# Altium integrated library TI Power Management Power Modules.IntLib: 831 symbols (part 7 of 44)
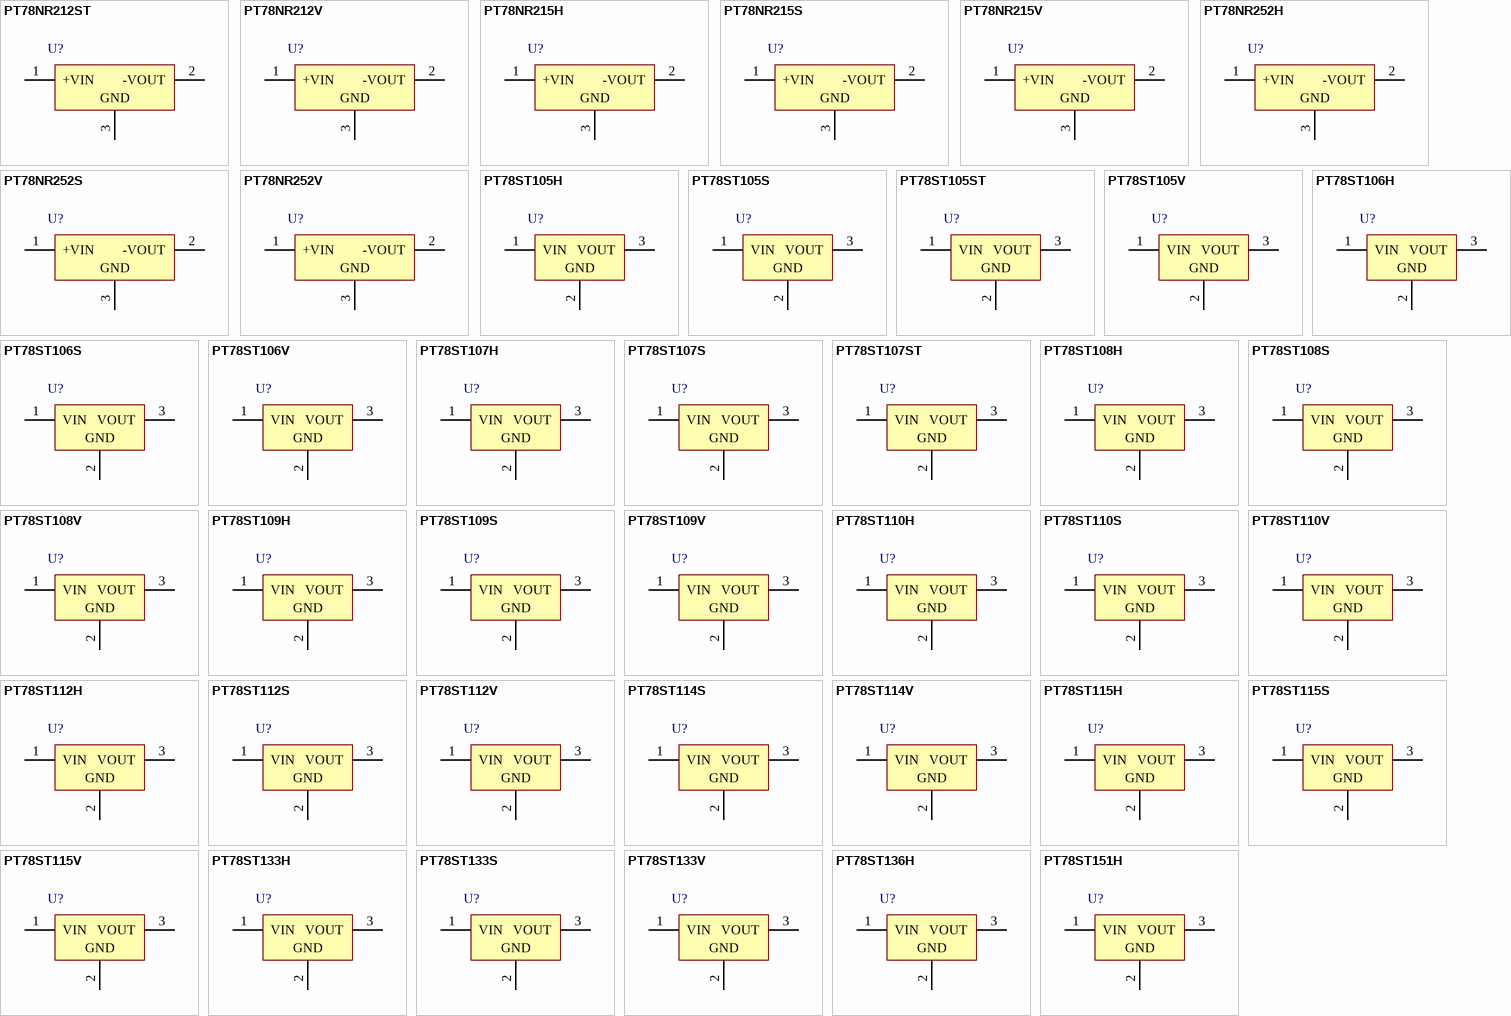
[diagram p29: symbols PT78NR212ST to PT78ST151H]

## PT78NR252S
designator U?
-5.2 V, 10 to 12 W Plus to Minus Voltage ISR, 0 to 85 degC, 3-pin Module (EFJ3), Pb-Free (RoHS); Manufacturer: Texas Instruments; PartNumber: PT78NR252S; Iout(Max)(A): 2; Regulated Outputs(#): 1; SubFamily: Non-Isolated POL; Vin(Max)(V): 15; Vin(Min)(V): 9; DatasheetVersion: SLTS074A; PackageVersion: 4203868/B; PackageReference: EFJ3; PackageDescription: 3-Pin Metal In-Line, Body 23.62 x 25.65 mm; Supplier 1: Digi-Key; Supplier Part Number 1: 296-20275-ND; Supplier 2: Newark; Supplier Part Number 2: 75C7215; Supplier 3: Mouser; Supplier Part Number 3: 595-PT78NR252S; Eco-Plan: Pb-Free (RoHS); Vout(Max)(V): -5.2; Vout(Min)(V): -5.2; Mounting Technology: Surface Mount; ComponentLink1Description: Manufacturer URL; ComponentLink1URL: http://www.ti.com/; ComponentLink2Description: Datasheet; ComponentLink2URL: http://www.ti.com/general/docs/lit/getliterature.tsp?genericPartNumber=PT78NR252&fileType=pdf; ComponentLink3Description: Package Specification; ComponentLink3URL: http://www.ti.com/litv/pdf/mmsi064a; ComponentLink4Description: URL Link1; ComponentLink4URL: Samples URL:http://www.ti.com/product/pt78nr252#samples
footprint TI-EFJ3_V (Module, 3-Leads, Body 25.65x23.62mm)
pins: 1 +VIN (power), 2 -VOUT (power), 3 GND (power)

## PT78NR252V
designator U?
-5.2 V, 10 to 12 W Plus to Minus Voltage ISR, 0 to 85 degC, 3-pin Module (EFF3), Pb-Free (RoHS); Manufacturer: Texas Instruments; PartNumber: PT78NR252V; Iout(Max)(A): 2; Regulated Outputs(#): 1; SubFamily: Non-Isolated POL; Vin(Max)(V): 15; Vin(Min)(V): 9; DatasheetVersion: SLTS074A; PackageVersion: 4203866/B; PackageReference: EFF3; PackageDescription: 3-Pin Metal In-Line, Body 24.89 x 25.65 mm; Supplier 1: Digi-Key; Supplier Part Number 1: 296-20276-ND; Supplier 2: Mouser; Supplier Part Number 2: 595-PT78NR252V; Eco-Plan: Pb-Free (RoHS); Vout(Max)(V): -5.2; Vout(Min)(V): -5.2; Mounting Technology: Through Hole; ComponentLink1Description: Manufacturer URL; ComponentLink1URL: http://www.ti.com/; ComponentLink2Description: Datasheet; ComponentLink2URL: http://www.ti.com/general/docs/lit/getliterature.tsp?genericPartNumber=PT78NR252&fileType=pdf; ComponentLink3Description: Package Specification; ComponentLink3URL: http://www.ti.com/lit/ml/mmsi062a/mmsi062a.pdf; ComponentLink4Description: URL Link1; ComponentLink4URL: Samples URL:http://www.ti.com/product/pt78nr252#samples
footprint TI-EFF3_V (Module, 3-Leads, Body 25.65x9.65mm)
pins: 1 +VIN (power), 2 -VOUT (power), 3 GND (power)

## PT78ST105H
designator U?
5 V Vout 1.5 Amp Wide-Input Positive Step-Down ISR, -40 to 85 degC, 3-pin Module (EFA3), Pb-Free (RoHS); Manufacturer: Texas Instruments; PartNumber: PT78ST105H; Iout(Max)(A): 1.5; Regulated Outputs(#): 1; SubFamily: Non-Isolated POL; Vin(Max)(V): 38; Vin(Min)(V): 9; Vout(Max)(V): 5; DatasheetVersion: SLTS059A; PackageVersion: 4203861/C; PackageReference: EFA3; PackageDescription: 3-Pin Plastic In-Line, Body 23.87 x 22.86 mm; Supplier 1: Digi-Key; Supplier Part Number 1: PT78ST105H-ND; Supplier 2: Farnell; Supplier Part Number 2: 1213146; Supplier 3: Newark; Supplier Part Number 3: 16M1403; Supplier 4: Mouser; Supplier Part Number 4: 595-PT78ST105H; Eco-Plan: Pb-Free (RoHS); Vout(Min)(V): 5; Mounting Technology: Through Hole; ComponentLink1Description: Manufacturer URL; ComponentLink1URL: http://www.ti.com/; ComponentLink2Description: Datasheet; ComponentLink2URL: http://www.ti.com/general/docs/lit/getliterature.tsp?genericPartNumber=PT78ST105&fileType=pdf; ComponentLink3Description: Package Specification; ComponentLink3URL: http://www.ti.com/lit/ml/mpsi049b/mpsi049b.pdf; ComponentLink4Description: URL Link1; ComponentLink4URL: Samples URL:http://www.ti.com/product/pt78st105#samples
footprint TI-EFA3_V (Module, 3-Leads, Body 23.87x22.86 mm)
pins: 1 VIN (power), 2 GND (power), 3 VOUT (power)

## PT78ST105S
designator U?
5 V Vout 1.5 Amp Wide-Input Positive Step-Down ISR, -40 to 85 degC, 3-pin Module (EFC3), Pb-Free (RoHS); Manufacturer: Texas Instruments; PartNumber: PT78ST105S; Iout(Max)(A): 1.5; Regulated Outputs(#): 1; SubFamily: Non-Isolated POL; Vin(Max)(V): 38; Vin(Min)(V): 9; Vout(Max)(V): 5; DatasheetVersion: SLTS059A; PackageVersion: 4203862/C; PackageReference: EFC3; PackageDescription: 3-Pin Plastic In-Line, Body 23.87 x 22.86 mm; Supplier 1: Digi-Key; Supplier Part Number 1: PT78ST105S-ND; Supplier 2: Farnell; Supplier Part Number 2: 1213147; Supplier 3: Newark; Supplier Part Number 3: 17M7534; Supplier 4: Newark; Supplier Part Number 4: 01M8541; Supplier 5: Mouser; Supplier Part Number 5: 595-PT78ST105S; Eco-Plan: Pb-Free (RoHS); Vout(Min)(V): 5; Mounting Technology: Surface Mount; ComponentLink1Description: Manufacturer URL; ComponentLink1URL: http://www.ti.com/; ComponentLink2Description: Datasheet; ComponentLink2URL: http://www.ti.com/general/docs/lit/getliterature.tsp?genericPartNumber=PT78ST105&fileType=pdf; ComponentLink3Description: Package Specification; ComponentLink3URL: http://www.ti.com/lit/ml/mpsi050b/mpsi050b.pdf; ComponentLink4Description: URL Link1; ComponentLink4URL: Samples URL:http://www.ti.com/product/pt78st105#samples
footprint TI-EFC3_V (3-Leads Plastic In-Line, Body 22.86x23.87mm)
pins: 1 VIN (power), 2 GND (power), 3 VOUT (power)

## PT78ST105ST
designator U?
5 V Vout 1.5 Amp Wide-Input Positive Step-Down ISR, -40 to 85 degC, 3-pin Module (EFC3), Pb-Free (RoHS); Manufacturer: Texas Instruments; PartNumber: PT78ST105ST; Iout(Max)(A): 1.5; Regulated Outputs(#): 1; SubFamily: Non-Isolated POL; Vin(Max)(V): 38; Vin(Min)(V): 9; Vout(Max)(V): 5; DatasheetVersion: SLTS059A; PackageVersion: 4203862/C; PackageReference: EFC3; PackageDescription: 3-Pin Plastic In-Line, Body 23.87 x 22.86 mm; Supplier 1: Digi-Key; Supplier Part Number 1: PT78ST105ST-ND; Supplier 2: Newark; Supplier Part Number 2: 75C7218; Supplier 3: Mouser; Supplier Part Number 3: 595-PT78ST105ST; Eco-Plan: Pb-Free (RoHS); Vout(Min)(V): 5; Mounting Technology: Surface Mount; ComponentLink1Description: Manufacturer URL; ComponentLink1URL: http://www.ti.com/; ComponentLink2Description: Datasheet; ComponentLink2URL: http://www.ti.com/general/docs/lit/getliterature.tsp?genericPartNumber=PT78ST105&fileType=pdf; ComponentLink3Description: Package Specification; ComponentLink3URL: http://www.ti.com/lit/ml/mpsi050b/mpsi050b.pdf; ComponentLink4Description: URL Link1; ComponentLink4URL: Samples URL:http://www.ti.com/product/pt78st105#samples
footprint TI-EFC3_V (3-Leads Plastic In-Line, Body 22.86x23.87mm)
pins: 1 VIN (power), 2 GND (power), 3 VOUT (power)

## PT78ST105V
designator U?
5 V Vout 1.5 Amp Wide-Input Positive Step-Down ISR, -40 to 85 degC, 3-pin Module (EFD3), Pb-Free (RoHS); Manufacturer: Texas Instruments; PartNumber: PT78ST105V; Iout(Max)(A): 1.5; Regulated Outputs(#): 1; SubFamily: Non-Isolated POL; Vin(Max)(V): 38; Vin(Min)(V): 9; Vout(Max)(V): 5; DatasheetVersion: SLTS059A; PackageVersion: 4203860/A; PackageReference: EFD3; PackageDescription: 3-Pin Plastic In-Line, Body 23.87 x 22.86 mm; Supplier 1: Digi-Key; Supplier Part Number 1: PT78ST105V-ND; Supplier 2: Farnell; Supplier Part Number 2: 1213148; Supplier 3: Newark; Supplier Part Number 3: 16M2467; Supplier 4: Mouser; Supplier Part Number 4: 595-PT78ST105V; Eco-Plan: Pb-Free (RoHS); Vout(Min)(V): 5; Mounting Technology: Through Hole; ComponentLink1Description: Manufacturer URL; ComponentLink1URL: http://www.ti.com/; ComponentLink2Description: Datasheet; ComponentLink2URL: http://www.ti.com/general/docs/lit/getliterature.tsp?genericPartNumber=PT78ST105&fileType=pdf; ComponentLink3Description: Package Specification; ComponentLink3URL: http://www.ti.com/lit/ml/mpsi048/mpsi048.pdf; ComponentLink4Description: URL Link1; ComponentLink4URL: Samples URL:http://www.ti.com/product/pt78st105#samples
footprint TI-EFD3_V (Module, 3-Leads, Body 22.86x7.87mm)
pins: 1 VIN (power), 2 GND (power), 3 VOUT (power)

## PT78ST106H
designator U?
6 V Vout 1.5 Amp Wide-Input Positive Step-Down ISR, -40 to 85 degC, 3-pin Module (EFA3), Pb-Free (RoHS); Manufacturer: Texas Instruments; PartNumber: PT78ST106H; Iout(Max)(A): 1.5; Regulated Outputs(#): 1; SubFamily: Non-Isolated POL; Vin(Max)(V): 38; Vin(Min)(V): 9; Vout(Max)(V): 6; DatasheetVersion: SLTS059A; PackageVersion: 4203861/C; PackageReference: EFA3; PackageDescription: 3-Pin Plastic In-Line, Body 23.87 x 22.86 mm; Supplier 1: Digi-Key; Supplier Part Number 1: 296-32704-ND; Supplier 2: Newark; Supplier Part Number 2: 17M7535; Supplier 3: Mouser; Supplier Part Number 3: 595-PT78ST106H; Eco-Plan: Pb-Free (RoHS); Vout(Min)(V): 6; Mounting Technology: Through Hole; ComponentLink1Description: Manufacturer URL; ComponentLink1URL: http://www.ti.com/; ComponentLink2Description: Datasheet; ComponentLink2URL: http://www.ti.com/general/docs/lit/getliterature.tsp?genericPartNumber=PT78ST106&fileType=pdf; ComponentLink3Description: Package Specification; ComponentLink3URL: http://www.ti.com/lit/ml/mpsi049b/mpsi049b.pdf; ComponentLink4Description: URL Link1; ComponentLink4URL: Samples URL:http://www.ti.com/product/pt78st106#samples
footprint TI-EFA3_V (Module, 3-Leads, Body 23.87x22.86 mm)
pins: 1 VIN (power), 2 GND (power), 3 VOUT (power)

## PT78ST106S
designator U?
6 V Vout 1.5 Amp Wide-Input Positive Step-Down ISR, -40 to 85 degC, 3-pin Module (EFC3), Pb-Free (RoHS); Manufacturer: Texas Instruments; PartNumber: PT78ST106S; Iout(Max)(A): 1.5; Regulated Outputs(#): 1; SubFamily: Non-Isolated POL; Vin(Max)(V): 38; Vin(Min)(V): 9; Vout(Max)(V): 6; DatasheetVersion: SLTS059A; PackageVersion: 4203862/C; PackageReference: EFC3; PackageDescription: 3-Pin Plastic In-Line, Body 23.87 x 22.86 mm; Supplier 1: Digi-Key; Supplier Part Number 1: 296-20277-ND; Supplier 2: Farnell; Supplier Part Number 2: 1755071; Supplier 3: Newark; Supplier Part Number 3: 34R8217; Supplier 4: Newark; Supplier Part Number 4: 75C7221; Supplier 5: Mouser; Supplier Part Number 5: 595-PT78ST106S; Eco-Plan: Pb-Free (RoHS); Vout(Min)(V): 6; Mounting Technology: Surface Mount; ComponentLink1Description: Manufacturer URL; ComponentLink1URL: http://www.ti.com/; ComponentLink2Description: Datasheet; ComponentLink2URL: http://www.ti.com/general/docs/lit/getliterature.tsp?genericPartNumber=PT78ST106&fileType=pdf; ComponentLink3Description: Package Specification; ComponentLink3URL: http://www.ti.com/lit/ml/mpsi050b/mpsi050b.pdf; ComponentLink4Description: URL Link1; ComponentLink4URL: Samples URL:http://www.ti.com/product/pt78st106#samples
footprint TI-EFC3_V (3-Leads Plastic In-Line, Body 22.86x23.87mm)
pins: 1 VIN (power), 2 GND (power), 3 VOUT (power)

## PT78ST106V
designator U?
6 V Vout 1.5 Amp Wide-Input Positive Step-Down ISR, -40 to 85 degC, 3-pin Module (EFD3), Pb-Free (RoHS); Manufacturer: Texas Instruments; PartNumber: PT78ST106V; Iout(Max)(A): 1.5; Regulated Outputs(#): 1; SubFamily: Non-Isolated POL; Vin(Max)(V): 38; Vin(Min)(V): 11; Vout(Max)(V): 6; DatasheetVersion: SLTS059A; PackageVersion: 4203860/A; PackageReference: EFD3; PackageDescription: 3-Pin Plastic In-Line, Body 23.87 x 22.86 mm; Supplier 1: Digi-Key; Supplier Part Number 1: PT78ST106V-ND; Supplier 2: Newark; Supplier Part Number 2: 75C7223; Supplier 3: Mouser; Supplier Part Number 3: 595-PT78ST106V; Eco-Plan: Pb-Free (RoHS); Vout(Min)(V): 6; Mounting Technology: Through Hole; ComponentLink1Description: Manufacturer URL; ComponentLink1URL: http://www.ti.com/; ComponentLink2Description: Datasheet; ComponentLink2URL: http://www.ti.com/general/docs/lit/getliterature.tsp?genericPartNumber=PT78ST106&fileType=pdf; ComponentLink3Description: Package Specification; ComponentLink3URL: http://www.ti.com/lit/ml/mpsi048/mpsi048.pdf; ComponentLink4Description: URL Link1; ComponentLink4URL: Samples URL:http://www.ti.com/product/pt78st106#samples
footprint TI-EFD3_V (Module, 3-Leads, Body 22.86x7.87mm)
pins: 1 VIN (power), 2 GND (power), 3 VOUT (power)

## PT78ST107H
designator U?
7 V Vout 1.5 Amp Wide-Input Positive Step-Down ISR, -40 to 85 degC, 3-pin Module (EFA3), Pb-Free (RoHS); Manufacturer: Texas Instruments; PartNumber: PT78ST107H; Iout(Max)(A): 1.5; Regulated Outputs(#): 1; SubFamily: Non-Isolated POL; Vin(Max)(V): 38; Vin(Min)(V): 11; Vout(Max)(V): 7; DatasheetVersion: SLTS059A; PackageVersion: 4203861/C; PackageReference: EFA3; PackageDescription: 3-Pin Plastic In-Line, Body 23.87 x 22.86 mm; Supplier 1: Digi-Key; Supplier Part Number 1: 296-20278-ND; Supplier 2: Newark; Supplier Part Number 2: 75C7224; Supplier 3: Mouser; Supplier Part Number 3: 595-PT78ST107H; Eco-Plan: Pb-Free (RoHS); Vout(Min)(V): 7; Mounting Technology: Through Hole; ComponentLink1Description: Manufacturer URL; ComponentLink1URL: http://www.ti.com/; ComponentLink2Description: Datasheet; ComponentLink2URL: http://www.ti.com/general/docs/lit/getliterature.tsp?genericPartNumber=PT78ST107&fileType=pdf; ComponentLink3Description: Package Specification; ComponentLink3URL: http://www.ti.com/lit/ml/mpsi049b/mpsi049b.pdf; ComponentLink4Description: URL Link1; ComponentLink4URL: Samples URL:http://www.ti.com/product/pt78st107#samples
footprint TI-EFA3_V (Module, 3-Leads, Body 23.87x22.86 mm)
pins: 1 VIN (power), 2 GND (power), 3 VOUT (power)

## PT78ST107S
designator U?
7 V Vout 1.5 Amp Wide-Input Positive Step-Down ISR, -40 to 85 degC, 3-pin Module (EFC3), Pb-Free (RoHS); Manufacturer: Texas Instruments; PartNumber: PT78ST107S; Iout(Max)(A): 1.5; Regulated Outputs(#): 1; SubFamily: Non-Isolated POL; Vin(Max)(V): 38; Vin(Min)(V): 11; Vout(Max)(V): 7; DatasheetVersion: SLTS059A; PackageVersion: 4203862/C; PackageReference: EFC3; PackageDescription: 3-Pin Plastic In-Line, Body 23.87 x 22.86 mm; Supplier 1: Digi-Key; Supplier Part Number 1: 296-20279-ND; Supplier 2: Newark; Supplier Part Number 2: 75C7225; Supplier 3: Mouser; Supplier Part Number 3: 595-PT78ST107S; Eco-Plan: Pb-Free (RoHS); Vout(Min)(V): 7; Mounting Technology: Surface Mount; ComponentLink1Description: Manufacturer URL; ComponentLink1URL: http://www.ti.com/; ComponentLink2Description: Datasheet; ComponentLink2URL: http://www.ti.com/general/docs/lit/getliterature.tsp?genericPartNumber=PT78ST107&fileType=pdf; ComponentLink3Description: Package Specification; ComponentLink3URL: http://www.ti.com/lit/ml/mpsi050b/mpsi050b.pdf; ComponentLink4Description: URL Link1; ComponentLink4URL: Samples URL:http://www.ti.com/product/pt78st107#samples
footprint TI-EFC3_V (3-Leads Plastic In-Line, Body 22.86x23.87mm)
pins: 1 VIN (power), 2 GND (power), 3 VOUT (power)

## PT78ST107ST
designator U?
7 V Vout 1.5 Amp Wide-Input Positive Step-Down ISR, -40 to 85 degC, 3-pin Module (EFC3); Manufacturer: Texas Instruments; PartNumber: PT78ST107ST; Eco-Plan: TBD; Iout(Max)(A): 1.5; Regulated Outputs(#): 1; SubFamily: Non-Isolated POL; Vin(Max)(V): 38; Vin(Min)(V): 11; Vout(Max)(V): 7; DatasheetVersion: SLTS059A; PackageVersion: 4203862/C; PackageReference: EFC3; PackageDescription: 3-Pin Plastic In-Line, Body 23.87 x 22.86 mm; Supplier 1: Digi-Key; Supplier Part Number 1: PT78ST107ST-ND; Supplier 2: Newark; Supplier Part Number 2: 75C7226; Supplier 3: Mouser; Supplier Part Number 3: 595-PT78ST107ST; Vout(Min)(V): 7; Mounting Technology: Surface Mount; ComponentLink1Description: Manufacturer URL; ComponentLink1URL: http://www.ti.com/; ComponentLink2Description: Datasheet; ComponentLink2URL: http://www.ti.com/general/docs/lit/getliterature.tsp?genericPartNumber=PT78ST107&fileType=pdf; ComponentLink3Description: Package Specification; ComponentLink3URL: http://www.ti.com/lit/ml/mpsi050b/mpsi050b.pdf; ComponentLink4Description: URL Link1; ComponentLink4URL: Samples URL:http://www.ti.com/product/pt78st107#samples
footprint TI-EFC3_V (3-Leads Plastic In-Line, Body 22.86x23.87mm)
pins: 1 VIN (power), 2 GND (power), 3 VOUT (power)

## PT78ST108H
designator U?
8 V Vout 1.5 Amp Wide-Input Positive Step-Down ISR, -40 to 85 degC, 3-pin Module (EFA3), Pb-Free (RoHS); Manufacturer: Texas Instruments; PartNumber: PT78ST108H; Iout(Max)(A): 1.5; Regulated Outputs(#): 1; SubFamily: Non-Isolated POL; Vin(Max)(V): 38; Vin(Min)(V): 16; Vout(Max)(V): 8; DatasheetVersion: SLTS059A; PackageVersion: 4203861/C; PackageReference: EFA3; PackageDescription: 3-Pin Plastic In-Line, Body 23.87 x 22.86 mm; Supplier 1: Digi-Key; Supplier Part Number 1: 296-20280-ND; Supplier 2: Newark; Supplier Part Number 2: 18M9300; Supplier 3: Mouser; Supplier Part Number 3: 595-PT78ST108H; Eco-Plan: Pb-Free (RoHS); Vout(Min)(V): 8; Mounting Technology: Through Hole; ComponentLink1Description: Manufacturer URL; ComponentLink1URL: http://www.ti.com/; ComponentLink2Description: Datasheet; ComponentLink2URL: http://www.ti.com/general/docs/lit/getliterature.tsp?genericPartNumber=PT78ST108&fileType=pdf; ComponentLink3Description: Package Specification; ComponentLink3URL: http://www.ti.com/lit/ml/mpsi049b/mpsi049b.pdf; ComponentLink4Description: URL Link1; ComponentLink4URL: Samples URL:http://www.ti.com/product/pt78st108#samples
footprint TI-EFA3_V (Module, 3-Leads, Body 23.87x22.86 mm)
pins: 1 VIN (power), 2 GND (power), 3 VOUT (power)

## PT78ST108S
designator U?
8 V Vout 1.5 Amp Wide-Input Positive Step-Down ISR, -40 to 85 degC, 3-pin Module (EFC3), Pb-Free (RoHS); Manufacturer: Texas Instruments; PartNumber: PT78ST108S; Iout(Max)(A): 1.5; Regulated Outputs(#): 1; SubFamily: Non-Isolated POL; Vin(Max)(V): 38; Vin(Min)(V): 16; Vout(Max)(V): 8; DatasheetVersion: SLTS059A; PackageVersion: 4203862/C; PackageReference: EFC3; PackageDescription: 3-Pin Plastic In-Line, Body 23.87 x 22.86 mm; Supplier 1: Digi-Key; Supplier Part Number 1: 296-20281-ND; Supplier 2: Newark; Supplier Part Number 2: 75C7229; Supplier 3: Mouser; Supplier Part Number 3: 595-PT78ST108S; Eco-Plan: Pb-Free (RoHS); Vout(Min)(V): 8; Mounting Technology: Surface Mount; ComponentLink1Description: Manufacturer URL; ComponentLink1URL: http://www.ti.com/; ComponentLink2Description: Datasheet; ComponentLink2URL: http://www.ti.com/general/docs/lit/getliterature.tsp?genericPartNumber=PT78ST108&fileType=pdf; ComponentLink3Description: Package Specification; ComponentLink3URL: http://www.ti.com/lit/ml/mpsi050b/mpsi050b.pdf; ComponentLink4Description: URL Link1; ComponentLink4URL: Samples URL:http://www.ti.com/product/pt78st108#samples
footprint TI-EFC3_V (3-Leads Plastic In-Line, Body 22.86x23.87mm)
pins: 1 VIN (power), 2 GND (power), 3 VOUT (power)

## PT78ST108V
designator U?
8 V Vout 1.5 Amp Wide-Input Positive Step-Down ISR, -40 to 85 degC, 3-pin Module (EFD3), Pb-Free (RoHS); Manufacturer: Texas Instruments; PartNumber: PT78ST108V; Iout(Max)(A): 1.5; Regulated Outputs(#): 1; SubFamily: Non-Isolated POL; Vin(Max)(V): 38; Vin(Min)(V): 16; Vout(Max)(V): 8; DatasheetVersion: SLTS059A; PackageVersion: 4203860/A; PackageReference: EFD3; PackageDescription: 3-Pin Plastic In-Line, Body 23.87 x 22.86 mm; Supplier 1: Digi-Key; Supplier Part Number 1: 296-20282-ND; Supplier 2: Newark; Supplier Part Number 2: 75C7231; Supplier 3: Mouser; Supplier Part Number 3: 595-PT78ST108V; Eco-Plan: Pb-Free (RoHS); Vout(Min)(V): 8; Mounting Technology: Through Hole; ComponentLink1Description: Manufacturer URL; ComponentLink1URL: http://www.ti.com/; ComponentLink2Description: Datasheet; ComponentLink2URL: http://www.ti.com/general/docs/lit/getliterature.tsp?genericPartNumber=PT78ST108&fileType=pdf; ComponentLink3Description: Package Specification; ComponentLink3URL: http://www.ti.com/lit/ml/mpsi048/mpsi048.pdf; ComponentLink4Description: URL Link1; ComponentLink4URL: Samples URL:http://www.ti.com/product/pt78st108#samples
footprint TI-EFD3_V (Module, 3-Leads, Body 22.86x7.87mm)
pins: 1 VIN (power), 2 GND (power), 3 VOUT (power)

## PT78ST109H
designator U?
9 V Vout 1.5 Amp Wide-Input Positive Step-Down ISR, -40 to 85 degC, 3-pin Module (EFA3), Pb-Free (RoHS); Manufacturer: Texas Instruments; PartNumber: PT78ST109H; Iout(Max)(A): 1.5; Regulated Outputs(#): 1; SubFamily: Non-Isolated POL; Vin(Max)(V): 38; Vin(Min)(V): 16; Vout(Max)(V): 9; DatasheetVersion: SLTS059A; PackageVersion: 4203861/C; PackageReference: EFA3; PackageDescription: 3-Pin Plastic In-Line, Body 23.87 x 22.86 mm; Supplier 1: Digi-Key; Supplier Part Number 1: PT78ST109H-ND; Supplier 2: Newark; Supplier Part Number 2: 74M8354; Supplier 3: Mouser; Supplier Part Number 3: 595-PT78ST109H; Eco-Plan: Pb-Free (RoHS); Vout(Min)(V): 9; Mounting Technology: Through Hole; ComponentLink1Description: Manufacturer URL; ComponentLink1URL: http://www.ti.com/; ComponentLink2Description: Datasheet; ComponentLink2URL: http://www.ti.com/general/docs/lit/getliterature.tsp?genericPartNumber=PT78ST109&fileType=pdf; ComponentLink3Description: Package Specification; ComponentLink3URL: http://www.ti.com/lit/ml/mpsi049b/mpsi049b.pdf; ComponentLink4Description: URL Link1; ComponentLink4URL: Samples URL:http://www.ti.com/product/pt78st109#samples
footprint TI-EFA3_V (Module, 3-Leads, Body 23.87x22.86 mm)
pins: 1 VIN (power), 2 GND (power), 3 VOUT (power)

## PT78ST109S
designator U?
9 V Vout 1.5 Amp Wide-Input Positive Step-Down ISR, -40 to 85 degC, 3-pin Module (EFC3), Pb-Free (RoHS); Manufacturer: Texas Instruments; PartNumber: PT78ST109S; Iout(Max)(A): 1.5; Regulated Outputs(#): 1; SubFamily: Non-Isolated POL; Vin(Max)(V): 38; Vin(Min)(V): 16; Vout(Max)(V): 9; DatasheetVersion: SLTS059A; PackageVersion: 4203862/C; PackageReference: EFC3; PackageDescription: 3-Pin Plastic In-Line, Body 23.87 x 22.86 mm; Supplier 1: Digi-Key; Supplier Part Number 1: 296-20283-ND; Supplier 2: Newark; Supplier Part Number 2: 75C7233; Supplier 3: Mouser; Supplier Part Number 3: 595-PT78ST109S; Eco-Plan: Pb-Free (RoHS); Vout(Min)(V): 9; Mounting Technology: Surface Mount; ComponentLink1Description: Manufacturer URL; ComponentLink1URL: http://www.ti.com/; ComponentLink2Description: Datasheet; ComponentLink2URL: http://www.ti.com/general/docs/lit/getliterature.tsp?genericPartNumber=PT78ST109&fileType=pdf; ComponentLink3Description: Package Specification; ComponentLink3URL: http://www.ti.com/lit/ml/mpsi050b/mpsi050b.pdf; ComponentLink4Description: URL Link1; ComponentLink4URL: Samples URL:http://www.ti.com/product/pt78st109#samples
footprint TI-EFC3_V (3-Leads Plastic In-Line, Body 22.86x23.87mm)
pins: 1 VIN (power), 2 GND (power), 3 VOUT (power)

## PT78ST109V
designator U?
9 V Vout 1.5 Amp Wide-Input Positive Step-Down ISR, -40 to 85 degC, 3-pin Module (EFD3), Pb-Free (RoHS); Manufacturer: Texas Instruments; PartNumber: PT78ST109V; Iout(Max)(A): 1.5; Regulated Outputs(#): 1; SubFamily: Non-Isolated POL; Vin(Max)(V): 38; Vin(Min)(V): 16; Vout(Max)(V): 9; DatasheetVersion: SLTS059A; PackageVersion: 4203860/A; PackageReference: EFD3; PackageDescription: 3-Pin Plastic In-Line, Body 23.87 x 22.86 mm; Supplier 1: Digi-Key; Supplier Part Number 1: 296-20284-ND; Supplier 2: Newark; Supplier Part Number 2: 75C7236; Supplier 3: Mouser; Supplier Part Number 3: 595-PT78ST109V; Eco-Plan: Pb-Free (RoHS); Vout(Min)(V): 9; Mounting Technology: Through Hole; ComponentLink1Description: Manufacturer URL; ComponentLink1URL: http://www.ti.com/; ComponentLink2Description: Datasheet; ComponentLink2URL: http://www.ti.com/general/docs/lit/getliterature.tsp?genericPartNumber=PT78ST109&fileType=pdf; ComponentLink3Description: Package Specification; ComponentLink3URL: http://www.ti.com/lit/ml/mpsi048/mpsi048.pdf; ComponentLink4Description: URL Link1; ComponentLink4URL: Samples URL:http://www.ti.com/product/pt78st109#samples
footprint TI-EFD3_V (Module, 3-Leads, Body 22.86x7.87mm)
pins: 1 VIN (power), 2 GND (power), 3 VOUT (power)

## PT78ST110H
designator U?
10 V Vout 1.5 Amp Wide-Input Positive Step-Down ISR, -40 to 85 degC, 3-pin Module (EFA3), Pb-Free (RoHS); Manufacturer: Texas Instruments; PartNumber: PT78ST110H; Iout(Max)(A): 1.5; Regulated Outputs(#): 1; SubFamily: Non-Isolated POL; Vin(Max)(V): 38; Vin(Min)(V): 9; Vout(Max)(V): 10; DatasheetVersion: SLTS059A; PackageVersion: 4203861/C; PackageReference: EFA3; PackageDescription: 3-Pin Plastic In-Line, Body 23.87 x 22.86 mm; Supplier 1: Digi-Key; Supplier Part Number 1: 296-32705-ND; Supplier 2: Newark; Supplier Part Number 2: 75C7237; Supplier 3: Mouser; Supplier Part Number 3: 595-PT78ST110H; Eco-Plan: Pb-Free (RoHS); Vout(Min)(V): 10; Mounting Technology: Through Hole; ComponentLink1Description: Manufacturer URL; ComponentLink1URL: http://www.ti.com/; ComponentLink2Description: Datasheet; ComponentLink2URL: http://www.ti.com/general/docs/lit/getliterature.tsp?genericPartNumber=PT78ST110&fileType=pdf; ComponentLink3Description: Package Specification; ComponentLink3URL: http://www.ti.com/lit/ml/mpsi049b/mpsi049b.pdf; ComponentLink4Description: URL Link1; ComponentLink4URL: Samples URL:http://www.ti.com/product/pt78st110#samples
footprint TI-EFA3_V (Module, 3-Leads, Body 23.87x22.86 mm)
pins: 1 VIN (power), 2 GND (power), 3 VOUT (power)

## PT78ST110S
designator U?
10 V Vout 1.5 Amp Wide-Input Positive Step-Down ISR, -40 to 85 degC, 3-pin Module (EFC3), Pb-Free (RoHS); Manufacturer: Texas Instruments; PartNumber: PT78ST110S; Iout(Max)(A): 1.5; Regulated Outputs(#): 1; SubFamily: Non-Isolated POL; Vin(Max)(V): 38; Vin(Min)(V): 14; Vout(Max)(V): 10; DatasheetVersion: SLTS059A; PackageVersion: 4203862/C; PackageReference: EFC3; PackageDescription: 3-Pin Plastic In-Line, Body 23.87 x 22.86 mm; Supplier 1: Digi-Key; Supplier Part Number 1: 296-20285-ND; Supplier 2: Newark; Supplier Part Number 2: 75C7238; Supplier 3: Mouser; Supplier Part Number 3: 595-PT78ST110S; Eco-Plan: Pb-Free (RoHS); Vout(Min)(V): 10; Mounting Technology: Surface Mount; ComponentLink1Description: Manufacturer URL; ComponentLink1URL: http://www.ti.com/; ComponentLink2Description: Datasheet; ComponentLink2URL: http://www.ti.com/general/docs/lit/getliterature.tsp?genericPartNumber=PT78ST110&fileType=pdf; ComponentLink3Description: Package Specification; ComponentLink3URL: http://www.ti.com/lit/ml/mpsi050b/mpsi050b.pdf; ComponentLink4Description: URL Link1; ComponentLink4URL: Samples URL:http://www.ti.com/product/pt78st110#samples
footprint TI-EFC3_V (3-Leads Plastic In-Line, Body 22.86x23.87mm)
pins: 1 VIN (power), 2 GND (power), 3 VOUT (power)

## PT78ST110V
designator U?
10 V Vout 1.5 Amp Wide-Input Positive Step-Down ISR, -40 to 85 degC, 3-pin Module (EFD3), Pb-Free (RoHS); Manufacturer: Texas Instruments; PartNumber: PT78ST110V; Iout(Max)(A): 1.5; Regulated Outputs(#): 1; SubFamily: Non-Isolated POL; Vin(Max)(V): 38; Vin(Min)(V): 14; Vout(Max)(V): 10; DatasheetVersion: SLTS059A; PackageVersion: 4203860/A; PackageReference: EFD3; PackageDescription: 3-Pin Plastic In-Line, Body 23.87 x 22.86 mm; Supplier 1: Digi-Key; Supplier Part Number 1: 296-20286-ND; Supplier 2: Newark; Supplier Part Number 2: 72C5960; Supplier 3: Mouser; Supplier Part Number 3: 595-PT78ST110V; Eco-Plan: Pb-Free (RoHS); Vout(Min)(V): 10; Mounting Technology: Through Hole; ComponentLink1Description: Manufacturer URL; ComponentLink1URL: http://www.ti.com/; ComponentLink2Description: Datasheet; ComponentLink2URL: http://www.ti.com/general/docs/lit/getliterature.tsp?genericPartNumber=PT78ST110&fileType=pdf; ComponentLink3Description: Package Specification; ComponentLink3URL: http://www.ti.com/lit/ml/mpsi048/mpsi048.pdf; ComponentLink4Description: URL Link1; ComponentLink4URL: Samples URL:http://www.ti.com/product/pt78st107#samples
footprint TI-EFD3_V (Module, 3-Leads, Body 22.86x7.87mm)
pins: 1 VIN (power), 2 GND (power), 3 VOUT (power)

## PT78ST112H
designator U?
12 V Vout 1.5 Amp Wide-Input Positive Step-Down ISR, -40 to 85 degC, 3-pin Module (EFA3), Pb-Free (RoHS); Manufacturer: Texas Instruments; PartNumber: PT78ST112H; Iout(Max)(A): 1.5; Regulated Outputs(#): 1; SubFamily: Non-Isolated POL; Vin(Max)(V): 38; Vin(Min)(V): 16; Vout(Max)(V): 12; DatasheetVersion: SLTS059A; PackageVersion: 4203861/C; PackageReference: EFA3; PackageDescription: 3-Pin Plastic In-Line, Body 23.87 x 22.86 mm; Supplier 1: Digi-Key; Supplier Part Number 1: PT78ST112H-ND; Supplier 2: Farnell; Supplier Part Number 2: 1213149; Supplier 3: Newark; Supplier Part Number 3: 15M7375; Supplier 4: Mouser; Supplier Part Number 4: 595-PT78ST112H; Eco-Plan: Pb-Free (RoHS); Vout(Min)(V): 12; Mounting Technology: Through Hole; ComponentLink1Description: Manufacturer URL; ComponentLink1URL: http://www.ti.com/; ComponentLink2Description: Datasheet; ComponentLink2URL: http://www.ti.com/general/docs/lit/getliterature.tsp?genericPartNumber=PT78ST112&fileType=pdf; ComponentLink3Description: Package Specification; ComponentLink3URL: http://www.ti.com/lit/ml/mpsi049b/mpsi049b.pdf; ComponentLink4Description: URL Link1; ComponentLink4URL: Samples URL:http://www.ti.com/product/pt78st112#samples
footprint TI-EFA3_V (Module, 3-Leads, Body 23.87x22.86 mm)
pins: 1 VIN (power), 2 GND (power), 3 VOUT (power)

## PT78ST112S
designator U?
12 V Vout 1.5 Amp Wide-Input Positive Step-Down ISR, -40 to 85 degC, 3-pin Module (EFC3), Pb-Free (RoHS); Manufacturer: Texas Instruments; PartNumber: PT78ST112S; Iout(Max)(A): 1.5; Regulated Outputs(#): 1; SubFamily: Non-Isolated POL; Vin(Max)(V): 38; Vin(Min)(V): 16; Vout(Max)(V): 12; DatasheetVersion: SLTS059A; PackageVersion: 4203862/C; PackageReference: EFC3; PackageDescription: 3-Pin Plastic In-Line, Body 23.87 x 22.86 mm; Supplier 1: Digi-Key; Supplier Part Number 1: PT78ST112S-ND; Supplier 2: Newark; Supplier Part Number 2: 75C7240; Supplier 3: Mouser; Supplier Part Number 3: 595-PT78ST112S; Eco-Plan: Pb-Free (RoHS); Vout(Min)(V): 12; Mounting Technology: Surface Mount; ComponentLink1Description: Manufacturer URL; ComponentLink1URL: http://www.ti.com/; ComponentLink2Description: Datasheet; ComponentLink2URL: http://www.ti.com/general/docs/lit/getliterature.tsp?genericPartNumber=PT78ST112&fileType=pdf; ComponentLink3Description: Package Specification; ComponentLink3URL: http://www.ti.com/lit/ml/mpsi050b/mpsi050b.pdf; ComponentLink4Description: URL Link1; ComponentLink4URL: Samples URL:http://www.ti.com/product/pt78st112#samples
footprint TI-EFC3_V (3-Leads Plastic In-Line, Body 22.86x23.87mm)
pins: 1 VIN (power), 2 GND (power), 3 VOUT (power)

## PT78ST112V
designator U?
12 V Vout 1.5 Amp Wide-Input Positive Step-Down ISR, -40 to 85 degC, 3-pin Module (EFD3), Pb-Free (RoHS); Manufacturer: Texas Instruments; PartNumber: PT78ST112V; Iout(Max)(A): 1.5; Regulated Outputs(#): 1; SubFamily: Non-Isolated POL; Vin(Max)(V): 38; Vin(Min)(V): 16; Vout(Max)(V): 12; DatasheetVersion: SLTS059A; PackageVersion: 4203860/A; PackageReference: EFD3; PackageDescription: 3-Pin Plastic In-Line, Body 23.87 x 22.86 mm; Supplier 1: Digi-Key; Supplier Part Number 1: PT78ST112V-ND; Supplier 2: Farnell; Supplier Part Number 2: 1213150; Supplier 3: Newark; Supplier Part Number 3: 18M2723; Supplier 4: Mouser; Supplier Part Number 4: 595-PT78ST112V; Eco-Plan: Pb-Free (RoHS); Vout(Min)(V): 12; Mounting Technology: Through Hole; ComponentLink1Description: Manufacturer URL; ComponentLink1URL: http://www.ti.com/; ComponentLink2Description: Datasheet; ComponentLink2URL: http://www.ti.com/general/docs/lit/getliterature.tsp?genericPartNumber=PT78ST112&fileType=pdf; ComponentLink3Description: Package Specification; ComponentLink3URL: http://www.ti.com/lit/ml/mpsi048/mpsi048.pdf; ComponentLink4Description: URL Link1; ComponentLink4URL: Samples URL:http://www.ti.com/product/pt78st112#samples
footprint TI-EFD3_V (Module, 3-Leads, Body 22.86x7.87mm)
pins: 1 VIN (power), 2 GND (power), 3 VOUT (power)

## PT78ST114S
designator U?
13.9 V Vout 1.5 Amp Wide-Input Positive Step-Down ISR, -40 to 85 degC, 3-pin Module (EFC3), Pb-Free (RoHS); Manufacturer: Texas Instruments; PartNumber: PT78ST114S; Iout(Max)(A): 1.5; Regulated Outputs(#): 1; SubFamily: Non-Isolated POL; Vin(Max)(V): 38; Vin(Min)(V): 16; Vout(Max)(V): 13.9; DatasheetVersion: SLTS059A; PackageVersion: 4203862/C; PackageReference: EFC3; PackageDescription: 3-Pin Plastic In-Line, Body 23.87 x 22.86 mm; Supplier 1: Digi-Key; Supplier Part Number 1: 296-20288-ND; Supplier 2: Mouser; Supplier Part Number 2: 595-PT78ST114S; Eco-Plan: Pb-Free (RoHS); Vout(Min)(V): 13.9; Mounting Technology: Surface Mount; ComponentLink1Description: Manufacturer URL; ComponentLink1URL: http://www.ti.com/; ComponentLink2Description: Datasheet; ComponentLink2URL: http://www.ti.com/general/docs/lit/getliterature.tsp?genericPartNumber=PT78ST114&fileType=pdf; ComponentLink3Description: Package Specification; ComponentLink3URL: http://www.ti.com/lit/ml/mpsi050b/mpsi050b.pdf; ComponentLink4Description: URL Link1; ComponentLink4URL: Samples URL:http://www.ti.com/product/pt78st114#samples
footprint TI-EFC3_V (3-Leads Plastic In-Line, Body 22.86x23.87mm)
pins: 1 VIN (power), 2 GND (power), 3 VOUT (power)

## PT78ST114V
designator U?
13.9 V Vout 1.5 Amp Wide-Input Positive Step-Down ISR, -40 to 85 degC, 3-pin Module (EFD3), Pb-Free (RoHS); Manufacturer: Texas Instruments; PartNumber: PT78ST114V; Iout(Max)(A): 1.5; Regulated Outputs(#): 1; SubFamily: Non-Isolated POL; Vin(Max)(V): 38; Vin(Min)(V): 16; Vout(Max)(V): 13.9; DatasheetVersion: SLTS059A; PackageVersion: 4203860/A; PackageReference: EFD3; PackageDescription: 3-Pin Plastic In-Line, Body 23.87 x 22.86 mm; Supplier 1: Digi-Key; Supplier Part Number 1: 296-20289-ND; Supplier 2: Newark; Supplier Part Number 2: 75C7247; Supplier 3: Mouser; Supplier Part Number 3: 595-PT78ST114V; Eco-Plan: Pb-Free (RoHS); Vout(Min)(V): 13.9; Mounting Technology: Through Hole; ComponentLink1Description: Manufacturer URL; ComponentLink1URL: http://www.ti.com/; ComponentLink2Description: Datasheet; ComponentLink2URL: http://www.ti.com/general/docs/lit/getliterature.tsp?genericPartNumber=PT78ST114&fileType=pdf; ComponentLink3Description: Package Specification; ComponentLink3URL: http://www.ti.com/lit/ml/mpsi048/mpsi048.pdf; ComponentLink4Description: URL Link1; ComponentLink4URL: Samples URL:http://www.ti.com/product/pt78st114#samples
footprint TI-EFD3_V (Module, 3-Leads, Body 22.86x7.87mm)
pins: 1 VIN (power), 2 GND (power), 3 VOUT (power)

## PT78ST115H
designator U?
15 V Vout 1.5 Amp Wide-Input Positive Step-Down ISR, -40 to 85 degC, 3-pin Module (EFA3), Pb-Free (RoHS); Manufacturer: Texas Instruments; PartNumber: PT78ST115H; Iout(Max)(A): 1.5; Regulated Outputs(#): 1; SubFamily: Non-Isolated POL; Vin(Max)(V): 38; Vin(Min)(V): 19; Vout(Max)(V): 15; DatasheetVersion: SLTS059A; PackageVersion: 4203861/C; PackageReference: EFA3; PackageDescription: 3-Pin Plastic In-Line, Body 23.87 x 22.86 mm; Supplier 1: Digi-Key; Supplier Part Number 1: PT78ST115H-ND; Supplier 2: Newark; Supplier Part Number 2: 14M8609; Supplier 3: Mouser; Supplier Part Number 3: 595-PT78ST115H; Eco-Plan: Pb-Free (RoHS); Vout(Min)(V): 15; Mounting Technology: Through Hole; ComponentLink1Description: Manufacturer URL; ComponentLink1URL: http://www.ti.com/; ComponentLink2Description: Datasheet; ComponentLink2URL: http://www.ti.com/general/docs/lit/getliterature.tsp?genericPartNumber=PT78ST115&fileType=pdf; ComponentLink3Description: Package Specification; ComponentLink3URL: http://www.ti.com/lit/ml/mpsi049b/mpsi049b.pdf; ComponentLink4Description: URL Link1; ComponentLink4URL: Samples URL:http://www.ti.com/product/pt78st115#samples
footprint TI-EFA3_V (Module, 3-Leads, Body 23.87x22.86 mm)
pins: 1 VIN (power), 2 GND (power), 3 VOUT (power)

## PT78ST115S
designator U?
15 V Vout 1.5 Amp Wide-Input Positive Step-Down ISR, -40 to 85 degC, 3-pin Module (EFC3), Pb-Free (RoHS); Manufacturer: Texas Instruments; PartNumber: PT78ST115S; Iout(Max)(A): 1.5; Regulated Outputs(#): 1; SubFamily: Non-Isolated POL; Vin(Max)(V): 38; Vin(Min)(V): 19; Vout(Max)(V): 15; DatasheetVersion: SLTS059A; PackageVersion: 4203862/C; PackageReference: EFC3; PackageDescription: 3-Pin Plastic In-Line, Body 23.87 x 22.86 mm; Supplier 1: Digi-Key; Supplier Part Number 1: 296-20290-ND; Supplier 2: Newark; Supplier Part Number 2: 34C6248; Supplier 3: Mouser; Supplier Part Number 3: 595-PT78ST115S; Eco-Plan: Pb-Free (RoHS); Vout(Min)(V): 15; Mounting Technology: Surface Mount; ComponentLink1Description: Manufacturer URL; ComponentLink1URL: http://www.ti.com/; ComponentLink2Description: Datasheet; ComponentLink2URL: http://www.ti.com/general/docs/lit/getliterature.tsp?genericPartNumber=PT78ST115&fileType=pdf; ComponentLink3Description: Package Specification; ComponentLink3URL: http://www.ti.com/lit/ml/mpsi050b/mpsi050b.pdf; ComponentLink4Description: URL Link1; ComponentLink4URL: Samples URL:http://www.ti.com/product/pt78st115#samples
footprint TI-EFC3_V (3-Leads Plastic In-Line, Body 22.86x23.87mm)
pins: 1 VIN (power), 2 GND (power), 3 VOUT (power)

## PT78ST115V
designator U?
15 V Vout 1.5 Amp Wide-Input Positive Step-Down ISR, -40 to 80 degC, 3-pin Module (EFD3), Pb-Free (RoHS); Manufacturer: Texas Instruments; PartNumber: PT78ST115V; Iout(Max)(A): 1.5; Regulated Outputs(#): 1; SubFamily: Non-Isolated POL; Vin(Max)(V): 38; Vin(Min)(V): 17.9; Vout(Max)(V): 15; DatasheetVersion: SLTS059A; PackageVersion: 4203860/A; PackageReference: EFD3; PackageDescription: 3-Pin Plastic In-Line, Body 23.87 x 22.86 mm; Supplier 1: Digi-Key; Supplier Part Number 1: 296-32706-ND; Supplier 2: Farnell; Supplier Part Number 2: 1213152; Supplier 3: Newark; Supplier Part Number 3: 01M8545; Supplier 4: Newark; Supplier Part Number 4: 32C0395; Supplier 5: Mouser; Supplier Part Number 5: 595-PT78ST115V; Eco-Plan: Pb-Free (RoHS); Vout(Min)(V): 15; Mounting Technology: Through Hole; ComponentLink1Description: Manufacturer URL; ComponentLink1URL: http://www.ti.com/; ComponentLink2Description: Datasheet; ComponentLink2URL: http://www.ti.com/general/docs/lit/getliterature.tsp?genericPartNumber=PT78ST115&fileType=pdf; ComponentLink3Description: Package Specification; ComponentLink3URL: http://www.ti.com/lit/ml/mpsi048/mpsi048.pdf; ComponentLink4Description: URL Link1; ComponentLink4URL: Samples URL:http://www.ti.com/product/pt78st115#samples
footprint TI-EFD3_V (Module, 3-Leads, Body 22.86x7.87mm)
pins: 1 VIN (power), 2 GND (power), 3 VOUT (power)

## PT78ST133H
designator U?
3.3 V Vout 1.5 Amp Wide-Input Positive Step-Down ISR, -40 to 85 degC, 3-pin Module (EFA3), Pb-Free (RoHS); Manufacturer: Texas Instruments; PartNumber: PT78ST133H; Iout(Max)(A): 1.5; Regulated Outputs(#): 1; SubFamily: Non-Isolated POL; Vin(Max)(V): 26; Vin(Min)(V): 9; Vout(Max)(V): 3.3; DatasheetVersion: SLTS059A; PackageVersion: 4203861/C; PackageReference: EFA3; PackageDescription: 3-Pin Plastic In-Line, Body 23.87 x 22.86 mm; Supplier 1: Digi-Key; Supplier Part Number 1: PT78ST133H-ND; Supplier 2: Farnell; Supplier Part Number 2: 1213153; Supplier 3: Newark; Supplier Part Number 3: 01M8546; Supplier 4: Newark; Supplier Part Number 4: 75C7251; Supplier 5: Mouser; Supplier Part Number 5: 595-PT78ST133H; Eco-Plan: Pb-Free (RoHS); Vout(Min)(V): 3.3; Mounting Technology: Through Hole; ComponentLink1Description: Manufacturer URL; ComponentLink1URL: http://www.ti.com/; ComponentLink2Description: Datasheet; ComponentLink2URL: http://www.ti.com/general/docs/lit/getliterature.tsp?genericPartNumber=PT78ST133&fileType=pdf; ComponentLink3Description: Package Specification; ComponentLink3URL: http://www.ti.com/lit/ml/mpsi049b/mpsi049b.pdf; ComponentLink4Description: URL Link1; ComponentLink4URL: Samples URL:http://www.ti.com/product/pt78st133#samples
footprint TI-EFA3_V (Module, 3-Leads, Body 23.87x22.86 mm)
pins: 1 VIN (power), 2 GND (power), 3 VOUT (power)

## PT78ST133S
designator U?
3.3 V Vout 1.5 Amp Wide-Input Positive Step-Down ISR, -40 to 85 degC, 3-pin Module (EFC3), Pb-Free (RoHS); Manufacturer: Texas Instruments; PartNumber: PT78ST133S; Iout(Max)(A): 1.5; Regulated Outputs(#): 1; SubFamily: Non-Isolated POL; Vin(Max)(V): 26; Vin(Min)(V): 9; Vout(Max)(V): 3.3; DatasheetVersion: SLTS059A; PackageVersion: 4203862/C; PackageReference: EFC3; PackageDescription: 3-Pin Plastic In-Line, Body 23.87 x 22.86 mm; Supplier 1: Digi-Key; Supplier Part Number 1: PT78ST133S-ND; Supplier 2: Newark; Supplier Part Number 2: 75C7252; Supplier 3: Mouser; Supplier Part Number 3: 595-PT78ST133S; Eco-Plan: Pb-Free (RoHS); Vout(Min)(V): 3.3; Mounting Technology: Surface Mount; ComponentLink1Description: Manufacturer URL; ComponentLink1URL: http://www.ti.com/; ComponentLink2Description: Datasheet; ComponentLink2URL: http://www.ti.com/general/docs/lit/getliterature.tsp?genericPartNumber=PT78ST133&fileType=pdf; ComponentLink3Description: Package Specification; ComponentLink3URL: http://www.ti.com/lit/ml/mpsi050b/mpsi050b.pdf; ComponentLink4Description: URL Link1; ComponentLink4URL: Samples URL:http://www.ti.com/product/pt78st133#samples
footprint TI-EFC3_V (3-Leads Plastic In-Line, Body 22.86x23.87mm)
pins: 1 VIN (power), 2 GND (power), 3 VOUT (power)

## PT78ST133V
designator U?
3.3 V Vout 1.5 Amp Wide-Input Positive Step-Down ISR, -40 to 85 degC, 3-pin Module (EFD3), Pb-Free (RoHS); Manufacturer: Texas Instruments; PartNumber: PT78ST133V; Iout(Max)(A): 1.5; Regulated Outputs(#): 1; SubFamily: Non-Isolated POL; Vin(Max)(V): 26; Vin(Min)(V): 9; Vout(Max)(V): 3.3; DatasheetVersion: SLTS059A; PackageVersion: 4203860/A; PackageReference: EFD3; PackageDescription: 3-Pin Plastic In-Line, Body 23.87 x 22.86 mm; Supplier 1: Digi-Key; Supplier Part Number 1: PT78ST133V-ND; Supplier 2: Farnell; Supplier Part Number 2: 1213154; Supplier 3: Newark; Supplier Part Number 3: 24M6511; Supplier 4: Newark; Supplier Part Number 4: 75C7254; Supplier 5: Mouser; Supplier Part Number 5: 595-PT78ST133V; Eco-Plan: Pb-Free (RoHS); Vout(Min)(V): 3.3; Mounting Technology: Through Hole; ComponentLink1Description: Manufacturer URL; ComponentLink1URL: http://www.ti.com/; ComponentLink2Description: Datasheet; ComponentLink2URL: http://www.ti.com/general/docs/lit/getliterature.tsp?genericPartNumber=PT78ST133&fileType=pdf; ComponentLink3Description: Package Specification; ComponentLink3URL: http://www.ti.com/lit/ml/mpsi048/mpsi048.pdf; ComponentLink4Description: URL Link1; ComponentLink4URL: Samples URL:http://www.ti.com/product/pt78st133
footprint TI-EFD3_V (Module, 3-Leads, Body 22.86x7.87mm)
pins: 1 VIN (power), 2 GND (power), 3 VOUT (power)

## PT78ST136H
designator U?
3.6 V Vout 1.5 Amp Wide-Input Positive Step-Down ISR, -40 to 80 degC, 3-pin Module (EFA3), Pb-Free (RoHS); Manufacturer: Texas Instruments; PartNumber: PT78ST136H; Iout(Max)(A): 1.5; Regulated Outputs(#): 1; SubFamily: Non-Isolated POL; Vin(Max)(V): 26; Vin(Min)(V): 9; Vout(Max)(V): 3.6; DatasheetVersion: SLTS059A; PackageVersion: 4203861/C; PackageReference: EFA3; PackageDescription: 3-Pin Plastic In-Line, Body 23.87 x 22.86 mm; Supplier 1: Digi-Key; Supplier Part Number 1: 296-32707-ND; Supplier 2: Newark; Supplier Part Number 2: 75C7255; Supplier 3: Mouser; Supplier Part Number 3: 595-PT78ST136H; Eco-Plan: Pb-Free (RoHS); Vout(Min)(V): 3.6; Mounting Technology: Through Hole; ComponentLink1Description: Manufacturer URL; ComponentLink1URL: http://www.ti.com/; ComponentLink2Description: Datasheet; ComponentLink2URL: http://www.ti.com/general/docs/lit/getliterature.tsp?genericPartNumber=PT78ST136&fileType=pdf; ComponentLink3Description: Package Specification; ComponentLink3URL: http://www.ti.com/lit/ml/mpsi049b/mpsi049b.pdf; ComponentLink4Description: URL Link1; ComponentLink4URL: Samples URL:http://www.ti.com/product/pt78st136
footprint TI-EFA3_V (Module, 3-Leads, Body 23.87x22.86 mm)
pins: 1 VIN (power), 2 GND (power), 3 VOUT (power)

## PT78ST151H
designator U?
5.1 V Vout 1.5 Amp Wide-Input Positive Step-Down ISR, -40 to 85 degC, 3-pin Module (EFA3), Pb-Free (RoHS); Manufacturer: Texas Instruments; PartNumber: PT78ST151H; Iout(Max)(A): 1.5; Regulated Outputs(#): 1; SubFamily: Non-Isolated POL; Vin(Max)(V): 38; Vin(Min)(V): 9; Vout(Max)(V): 5.1; DatasheetVersion: SLTS059A; PackageVersion: 4203861/C; PackageReference: EFA3; PackageDescription: 3-Pin Plastic In-Line, Body 23.87 x 22.86 mm; Supplier 1: Digi-Key; Supplier Part Number 1: 296-32708-ND; Supplier 2: Newark; Supplier Part Number 2: 75C7259; Supplier 3: Mouser; Supplier Part Number 3: 595-PT78ST151H; Eco-Plan: Pb-Free (RoHS); Vout(Min)(V): 5.1; Mounting Technology: Through Hole; ComponentLink1Description: Manufacturer URL; ComponentLink1URL: http://www.ti.com/; ComponentLink2Description: Datasheet; ComponentLink2URL: http://www.ti.com/general/docs/lit/getliterature.tsp?genericPartNumber=PT78ST151&fileType=pdf; ComponentLink3Description: Package Specification; ComponentLink3URL: http://www.ti.com/lit/ml/mpsi049b/mpsi049b.pdf; ComponentLink4Description: URL Link1; ComponentLink4URL: Samples URL:http://www.ti.com/product/pt78st151#samples
footprint TI-EFA3_V (Module, 3-Leads, Body 23.87x22.86 mm)
pins: 1 VIN (power), 2 GND (power), 3 VOUT (power)

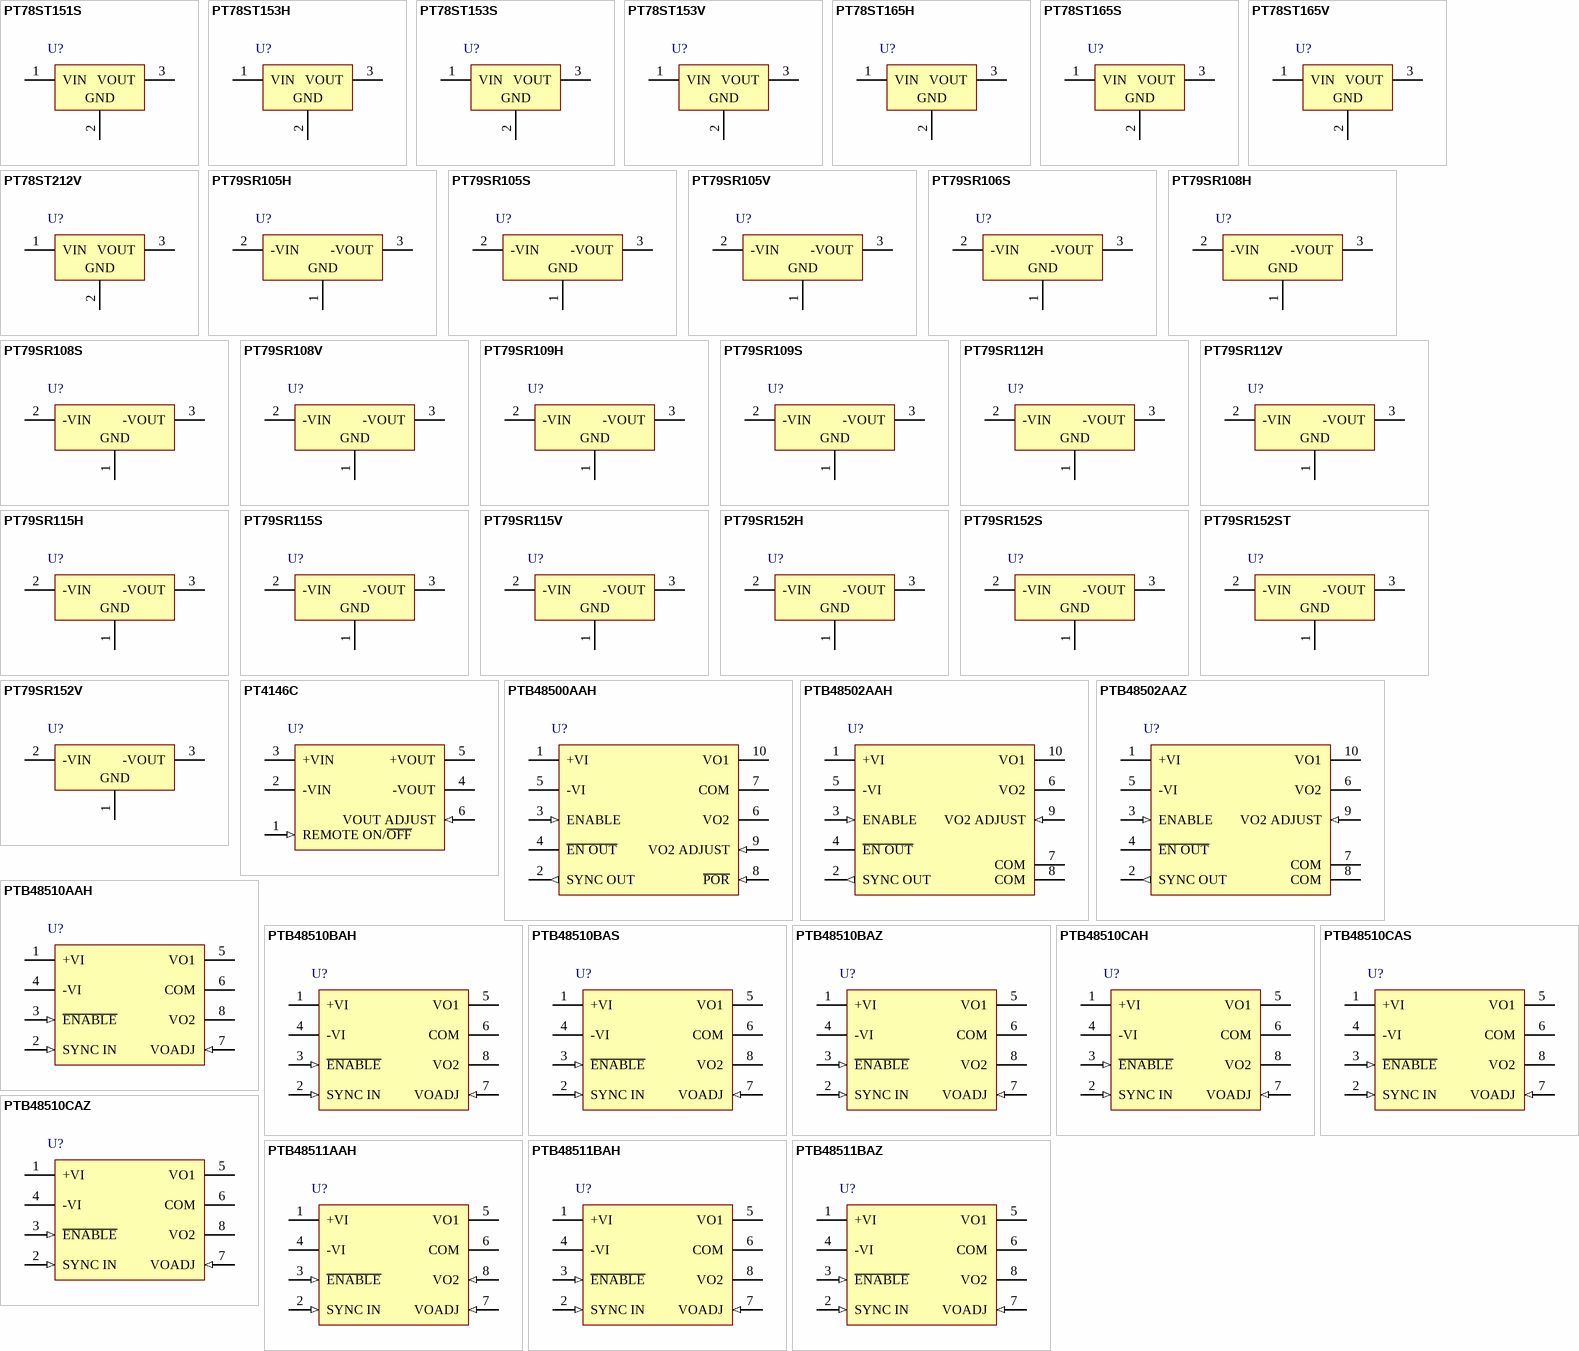
[diagram p6: symbols PT78ST151S to PTB48511BAZ]

## PT78ST151S
designator U?
5.1 V Vout 1.5 Amp Wide-Input Positive Step-Down ISR, -40 to 85 degC, 3-pin Module (EFC3), Pb-Free (RoHS); Manufacturer: Texas Instruments; PartNumber: PT78ST151S; Iout(Max)(A): 1.5; Regulated Outputs(#): 1; SubFamily: Non-Isolated POL; Vin(Max)(V): 38; Vin(Min)(V): 9; Vout(Max)(V): 5.1; DatasheetVersion: SLTS059A; PackageVersion: 4203862/C; PackageReference: EFC3; PackageDescription: 3-Pin Plastic In-Line, Body 23.87 x 22.86 mm; Supplier 1: Digi-Key; Supplier Part Number 1: 296-32709-ND; Supplier 2: Newark; Supplier Part Number 2: 75C7260; Supplier 3: Mouser; Supplier Part Number 3: 595-PT78ST151S; Eco-Plan: Pb-Free (RoHS); Vout(Min)(V): 5.1; Mounting Technology: Surface Mount; ComponentLink1Description: Manufacturer URL; ComponentLink1URL: http://www.ti.com/; ComponentLink2Description: Datasheet; ComponentLink2URL: http://www.ti.com/general/docs/lit/getliterature.tsp?genericPartNumber=PT78ST151&fileType=pdf; ComponentLink3Description: Package Specification; ComponentLink3URL: http://www.ti.com/lit/ml/mpsi050b/mpsi050b.pdf; ComponentLink4Description: URL Link1; ComponentLink4URL: Samples URL:http://www.ti.com/product/pt78st151#samples
footprint TI-EFC3_V (3-Leads Plastic In-Line, Body 22.86x23.87mm)
pins: 1 VIN (power), 2 GND (power), 3 VOUT (power)

## PT78ST153H
designator U?
5.25 V Vout 1.5 Amp Wide-Input Positive Step-Down ISR, -40 to 85 degC, 3-pin Module (EFA3), Pb-Free (RoHS); Manufacturer: Texas Instruments; PartNumber: PT78ST153H; Iout(Max)(A): 1.5; Regulated Outputs(#): 1; SubFamily: Non-Isolated POL; Vin(Max)(V): 38; Vin(Min)(V): 9.25; Vout(Max)(V): 5.25; DatasheetVersion: SLTS059A; PackageVersion: 4203861/C; PackageReference: EFA3; PackageDescription: 3-Pin Plastic In-Line, Body 23.87 x 22.86 mm; Supplier 1: Digi-Key; Supplier Part Number 1: PT78ST153H-ND; Supplier 2: Newark; Supplier Part Number 2: 75C7263; Supplier 3: Mouser; Supplier Part Number 3: 595-PT78ST153H; Eco-Plan: Pb-Free (RoHS); Vout(Min)(V): 5.25; Mounting Technology: Through Hole; ComponentLink1Description: Manufacturer URL; ComponentLink1URL: http://www.ti.com/; ComponentLink2Description: Datasheet; ComponentLink2URL: http://www.ti.com/general/docs/lit/getliterature.tsp?genericPartNumber=PT78ST153&fileType=pdf; ComponentLink3Description: Package Specification; ComponentLink3URL: http://www.ti.com/lit/ml/mpsi049b/mpsi049b.pdf; ComponentLink4Description: URL Link1; ComponentLink4URL: Samples URL:http://www.ti.com/product/pt78st153#samples
footprint TI-EFA3_V (Module, 3-Leads, Body 23.87x22.86 mm)
pins: 1 VIN (power), 2 GND (power), 3 VOUT (power)

## PT78ST153S
designator U?
5.25 V Vout 1.5 Amp Wide-Input Positive Step-Down ISR, -40 to 85 degC, 3-pin Module (EFC3), Pb-Free (RoHS); Manufacturer: Texas Instruments; PartNumber: PT78ST153S; Iout(Max)(A): 1.5; Regulated Outputs(#): 1; SubFamily: Non-Isolated POL; Vin(Max)(V): 38; Vin(Min)(V): 9.25; Vout(Max)(V): 5.25; DatasheetVersion: SLTS059A; PackageVersion: 4203862/C; PackageReference: EFC3; PackageDescription: 3-Pin Plastic In-Line, Body 23.87 x 22.86 mm; Supplier 1: Digi-Key; Supplier Part Number 1: 296-20291-ND; Supplier 2: Newark; Supplier Part Number 2: 75C7264; Supplier 3: Mouser; Supplier Part Number 3: 595-PT78ST153S; Eco-Plan: Pb-Free (RoHS); Vout(Min)(V): 5.25; Mounting Technology: Surface Mount; ComponentLink1Description: Manufacturer URL; ComponentLink1URL: http://www.ti.com/; ComponentLink2Description: Datasheet; ComponentLink2URL: http://www.ti.com/general/docs/lit/getliterature.tsp?genericPartNumber=PT78ST153&fileType=pdf; ComponentLink3Description: Package Specification; ComponentLink3URL: http://www.ti.com/lit/ml/mpsi050b/mpsi050b.pdf; ComponentLink4Description: URL Link1; ComponentLink4URL: Samples URL:http://www.ti.com/product/pt78st153#samples
footprint TI-EFC3_V (3-Leads Plastic In-Line, Body 22.86x23.87mm)
pins: 1 VIN (power), 2 GND (power), 3 VOUT (power)

## PT78ST153V
designator U?
5.25 V Vout 1.5 Amp Wide-Input Positive Step-Down ISR, -40 to 85 degC, 3-pin Module (EFD3), Pb-Free (RoHS); Manufacturer: Texas Instruments; PartNumber: PT78ST153V; Iout(Max)(A): 1.5; Regulated Outputs(#): 1; SubFamily: Non-Isolated POL; Vin(Max)(V): 38; Vin(Min)(V): 9.25; Vout(Max)(V): 5.25; DatasheetVersion: SLTS059A; PackageVersion: 4203860/A; PackageReference: EFD3; PackageDescription: 3-Pin Plastic In-Line, Body 23.87 x 22.86 mm; Supplier 1: Digi-Key; Supplier Part Number 1: 296-20292-ND; Supplier 2: Newark; Supplier Part Number 2: 75C7266; Supplier 3: Mouser; Supplier Part Number 3: 595-PT78ST153V; Eco-Plan: Pb-Free (RoHS); Vout(Min)(V): 5.25; Mounting Technology: Through Hole; ComponentLink1Description: Manufacturer URL; ComponentLink1URL: http://www.ti.com/; ComponentLink2Description: Datasheet; ComponentLink2URL: http://www.ti.com/general/docs/lit/getliterature.tsp?genericPartNumber=PT78ST153&fileType=pdf; ComponentLink3Description: Package Specification; ComponentLink3URL: http://www.ti.com/lit/ml/mpsi048/mpsi048.pdf; ComponentLink4Description: URL Link1; ComponentLink4URL: Samples URL:http://www.ti.com/product/pt78st153#samples
footprint TI-EFD3_V (Module, 3-Leads, Body 22.86x7.87mm)
pins: 1 VIN (power), 2 GND (power), 3 VOUT (power)